# EAGLE library part SLG46620A (library GREENPAK)
GreenPAK4 SLG46620G Silego Technology www.silego.com Features • Logic & Mixed Signal Circuits • Highly Versatile Macro Cells • Read Back Protection (Read Lock) • 1.8V (±5%) to 5V (±10%) Supply • Operating Temperature Range: -40°C to 85°C • RoHS Compliant / Halogen-Free • 20-pin STQFN: 2 x 3 x 0.55 mm, 0.4 mm pitch
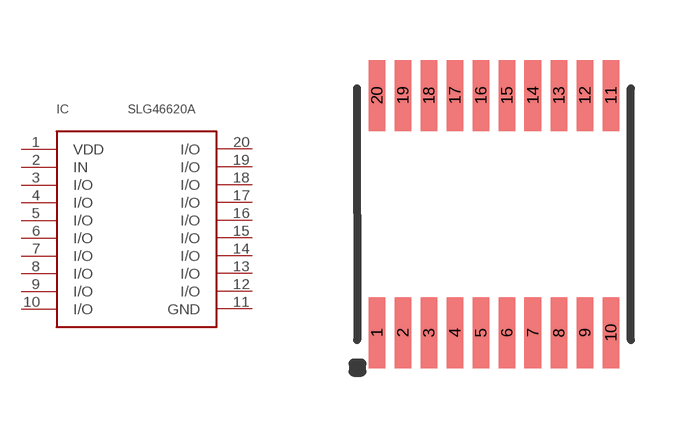
[diagram p42: symbol with the pads of TSOP-20; footprint TSOP-20]

Designator prefix IC

## SLG46620A  [TSOP-20]
1  VDD
2  IN
3  I/O
4  I/O
5  I/O
6  I/O
7  I/O
8  I/O
9  I/O
10  I/O
11  GND
12  I/O
13  I/O
14  I/O
15  I/O
16  I/O
17  I/O
18  I/O
19  I/O
20  I/O

## Footprint TSOP-20 (pad centres in mm)
smd 0.42 x 1.78: 1 -2.925,-2.97; 2 -2.275,-2.97; 3 -1.625,-2.97; 4 -0.975,-2.97; 5 -0.325,-2.97; 6 0.325,-2.97; 7 0.975,-2.97; 8 1.625,-2.97; 9 2.275,-2.97; 10 2.925,-2.97; 11 2.925,2.97; 12 2.275,2.97; 13 1.625,2.97; 14 0.975,2.97; 15 0.325,2.97; 16 -0.325,2.97; 17 -0.975,2.97; 18 -1.625,2.97; 19 -2.275,2.97; 20 -2.925,2.97